# Altium footprint library PCB - CONNECTOR - HARWIN - HARWIN M20-7830845.PcbLib: 1 footprints
Each footprint in its own frame and in the unit in brackets; x right, y up, seen from the top. Pads: shape width x height; smd on the part's side, far side on the other; paste and mask are expansions set on the pad; w line width, h text height; cw(c..) or ccw(c..) is an arc to the next point about the centre after c.
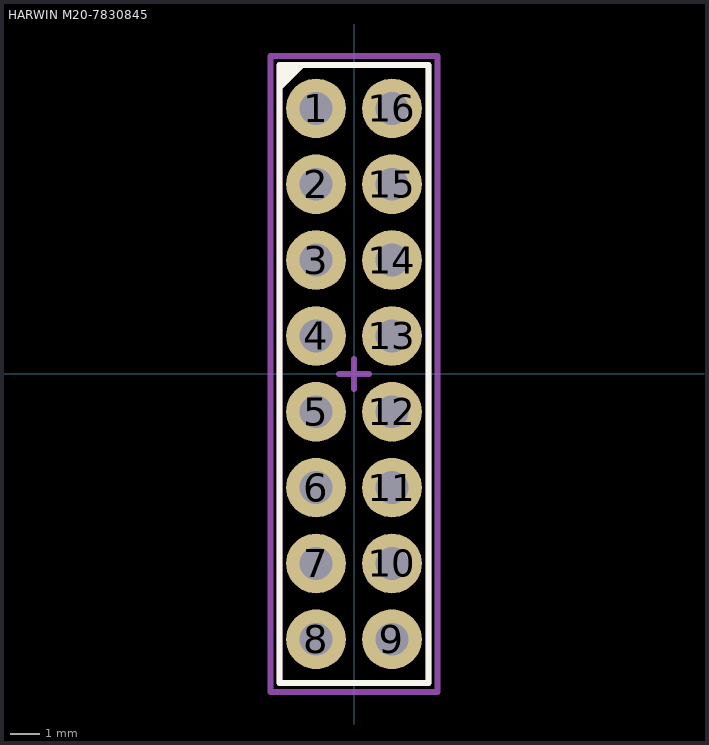
[diagram p0: the footprint, top view; thin cyan lines are the x and y axes]

## HARWIN M20-7830845 [mm] "2.54mm DIL PC TAIL PIN HEADER ASSEMBLY"
height 5
pads (16):
  round 2 hole 1.1: 1(-1.27,8.89) 2(-1.27,6.35) 3(-1.27,3.81) 4(-1.27,1.27) 5(-1.27,-1.27) 6(-1.27,-3.81) 7(-1.27,-6.35) 8(-1.27,-8.89) 9(1.27,-8.89) 10(1.27,-6.35) 11(1.27,-3.81) 12(1.27,-1.27) 13(1.27,1.27) 14(1.27,3.81) 15(1.27,6.35) 16(1.27,8.89)
Top Overlay:
  region: -2.5,10.35 -2.5,9.45 -1.6,10.35
  lines w0.2: -2.5,-10.36 -2.5,10.35 2.5,10.35 2.5,-10.36 -2.5,-10.36
Top Assembly:
  lines w0.2: -0.5,0 0.5,0 ; 0,-0.5 0,0.5 ; -2.5,-10.36 -2.5,10.35 2.5,10.35 2.5,-10.36 -2.5,-10.36
Top Courtyard (Mech15):
  lines w0.2: -2.8,-10.66 -2.8,10.65 2.8,10.65 2.8,-10.66 -2.8,-10.66
3D body "M20-7830842.step": height 8.5, standoff -3, extent -2.52,-10.36 2.52,10.36